# Altium footprint library 2Д3117А.PcbLib: 1 footprints
Each footprint in its own frame and in the unit in brackets; x right, y up, seen from the top. Pads: shape width x height; smd on the part's side, far side on the other; paste and mask are expansions set on the pad; w line width, h text height; cw(c..) or ccw(c..) is an arc to the next point about the centre after c.
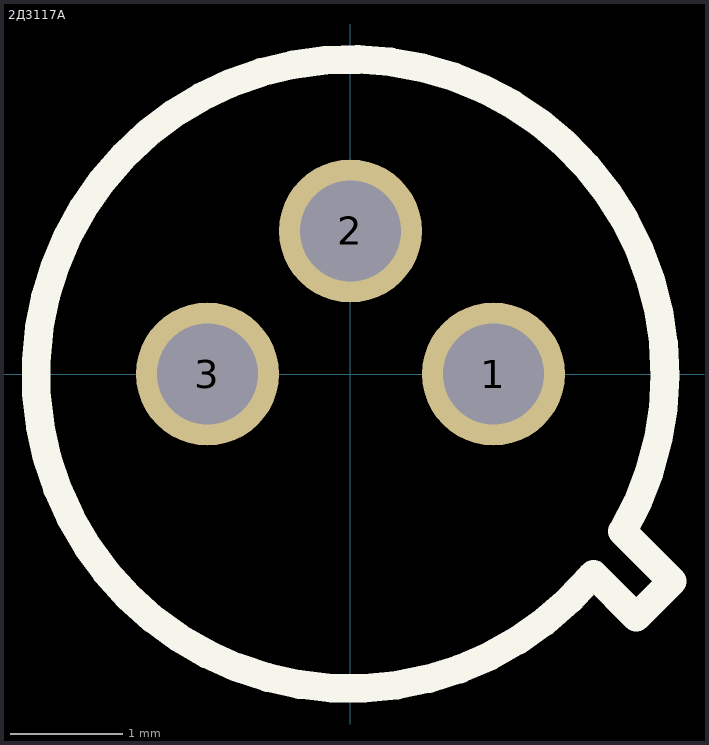
[diagram p0: the footprint, top view; thin cyan lines are the x and y axes]

## 2Д3117А [mm]
pads (3):
  round 1.27 hole 0.9: 1(1.27,0) 2(0,1.27) 3(-1.27,0)
Top Overlay:
  lines w0.254: 2.14,-1.796 cw(c0,0) 2.42,-1.397 ; 2.159,-1.778 2.54,-2.159 2.857,-1.841 2.413,-1.397
3D body: height 2.31, standoff 1.3, extent -2.794,-2.794 2.772,2.783
3D body: height 6.63, standoff 2.31, extent -2.54,-2.54 2.52,2.53